# Altium footprint library SamacSys.PcbLib: 128 footprints (part 1 of 8)
Each footprint in its own frame and in the unit in brackets; x right, y up, seen from the top. Pads: shape width x height; smd on the part's side, far side on the other; paste and mask are expansions set on the pad; w line width, h text height; cw(c..) or ccw(c..) is an arc to the next point about the centre after c.
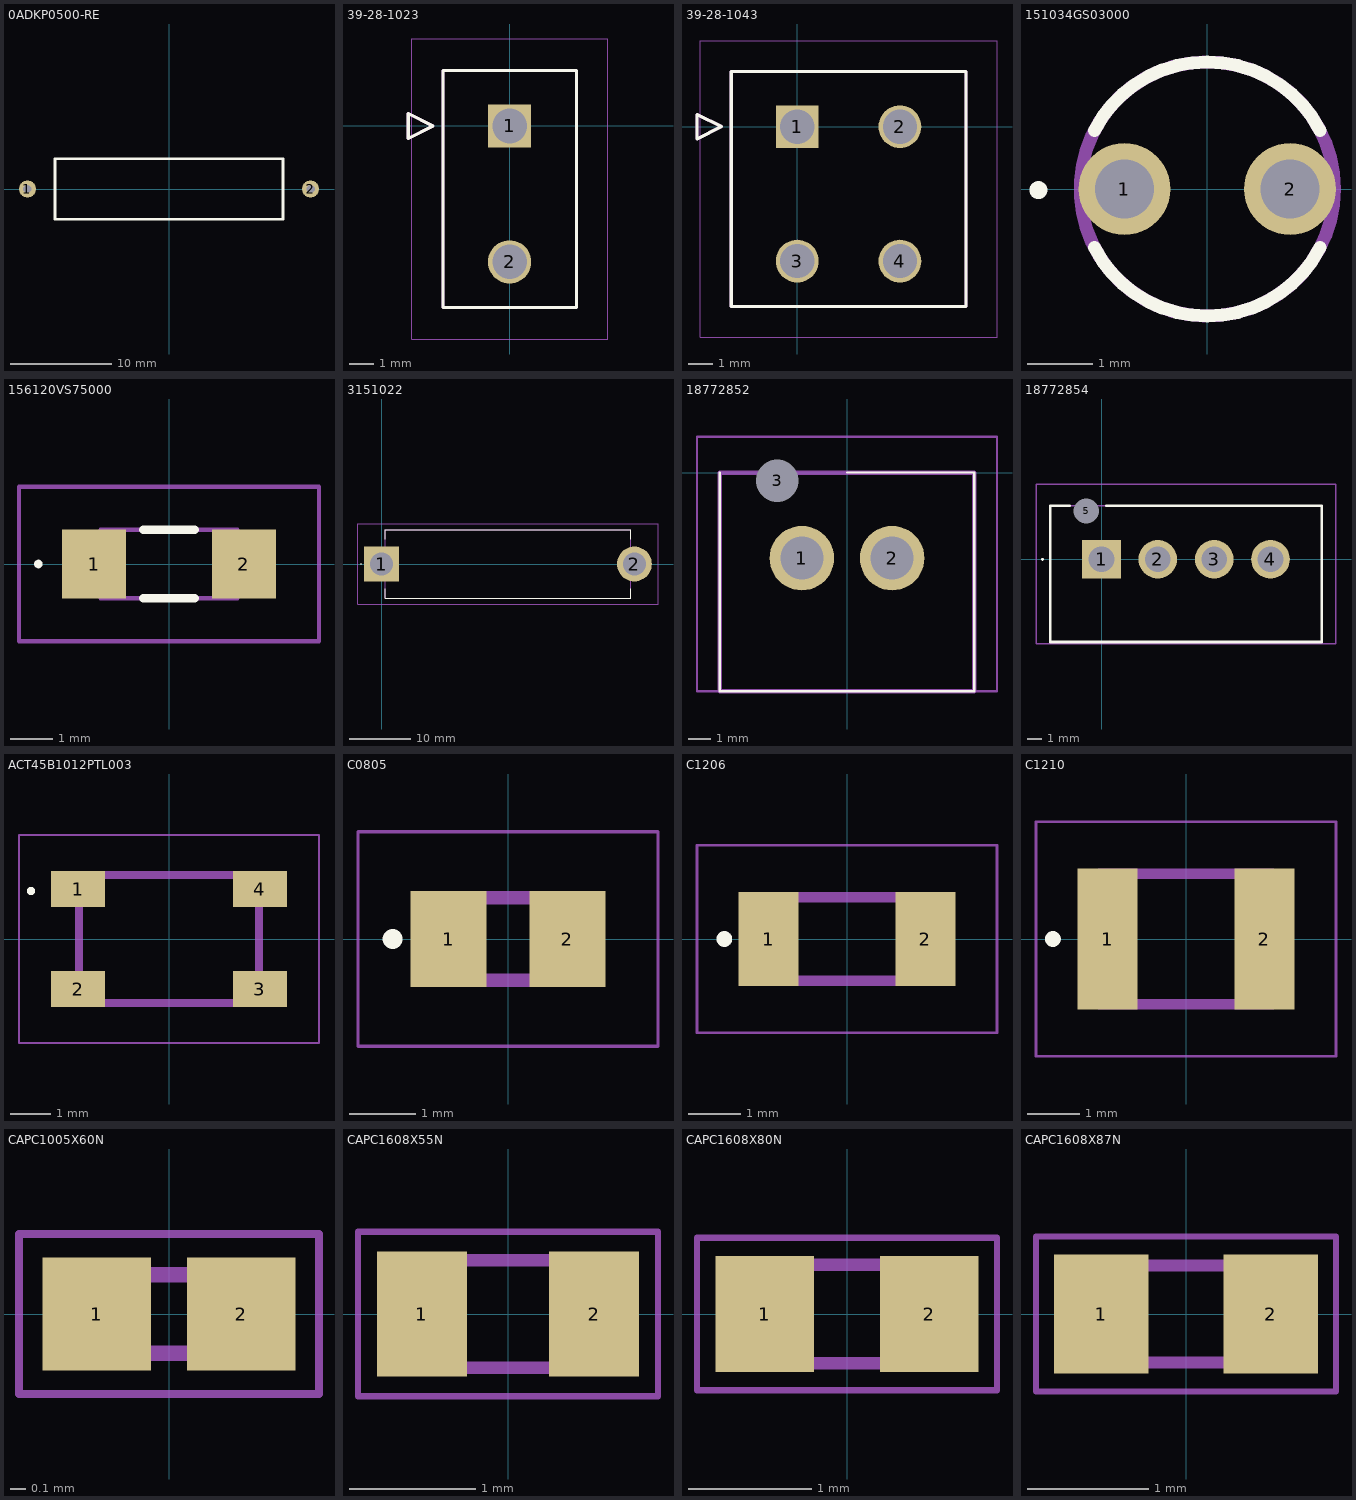
[diagram p0: the footprints below, top view; thin cyan lines are the x and y axes]

## 0ADKP0500-RE [mil]
pads (2):
  round 66 hole 33: 1(-550,0) 2(550,0)
Top Overlay:
  lines w10: -443,-118 443,-118 443,118 -443,118 -443,-118
Multi-Layer:
  pour cut-out: -443,118 -443,-118 443,-118 443,118

## 39-28-1023 [mm]
pads (2):
  rect 1.75x1.75 hole 1.4: 1(0,0)
  round 1.75 hole 1.4: 2(0,-5.5)
Top Overlay:
  lines w0.127: -4.1,-0.5 -4.1,0.5 -3.1,0 -4.1,-0.5 ; -2.7,-7.35 2.7,-7.35 2.7,2.25 -2.7,2.25 -2.7,-7.35
Mechanical 13:
  lines w0.127: -4.1,-0.5 -4.1,0.5 -3.1,0 -4.1,-0.5 ; -2.7,-7.35 2.7,-7.35 2.7,2.25 -2.7,2.25 -2.7,-7.35
Mechanical 15:
  lines w0.05: -3.97,-8.62 3.97,-8.62 3.97,3.52 -3.97,3.52 -3.97,-8.62
3D body "39-28-1023.stp": height 12.62, standoff -3.68, extent -3.11,-7.79 3.087,3.21

## 39-28-1043 [mm]
pads (4):
  rect 1.75x1.75 hole 1.4: 1(0,0)
  round 1.75 hole 1.4: 2(4.2,0) 3(0,-5.5) 4(4.2,-5.5)
Top Overlay:
  lines w0.127: -4.1,-0.5 -3.1,0 -4.1,0.5 -4.1,-0.5 ; -2.7,-7.35 -2.7,2.25 6.9,2.25 6.9,-7.35 -2.7,-7.35
Mechanical 13:
  lines w0.127: -4.1,-0.5 -3.1,0 -4.1,0.5 -4.1,-0.5 ; -2.7,-7.35 -2.7,2.25 6.9,2.25 6.9,-7.35 -2.7,-7.35
Mechanical 15:
  lines w0.05: -3.97,-8.62 -3.97,3.52 8.17,3.52 8.17,-8.62 -3.97,-8.62
3D body "39-28-1043.stp": height 12.76, standoff -3.54, extent -3.107,-8.74 7.29,2.26

## 151034GS03000 [mm]
pads (2):
  round 1.41 hole 0.91: 1(-1.27,0) 2(1.27,0)
Top Overlay:
  circle w0.2: c-2.59,-0.017 r0.037
  lines w0.2: -1.73,-0.9 ccw(c0,0) 1.73,-0.9 ; -1.73,0.9 cw(c0,0) 1.73,0.9
Mechanical 13:
  circle w0.2: c0,0 r1.95
3D body "151031VS06000.stp": height 1.97, standoff -1.97, extent -1.961,-31.7 1.645,0

## 156120VS75000 [mm]
pads (2):
  rect 1.5x1.6 smd: 1(-1.75,0) 2(1.75,0)
Top Overlay:
  lines w0.1: -3.1,0 cw(c-3.05,0) -3,0 cw(c-3.05,0) -3.1,0
  lines w0.2: -0.6,-0.8 0.6,-0.8 ; -0.6,0.8 0.6,0.8
Mechanical 13:
  lines w0.1: -1.6,-0.8 1.6,-0.8 1.6,0.8 -1.6,0.8 -1.6,-0.8
Mechanical 15:
  lines w0.1: -3.5,-1.8 3.5,-1.8 3.5,1.8 -3.5,1.8 -3.5,-1.8
3D body "156120VS75000.stp": height 1.2, standoff 0, extent -1.6,-0.8 1.6,0.8

## 3151022 [mm]
pads (2):
  rect 5.685x5.685 hole 3.79: 1(0,0)
  round 5.685 hole 3.79: 2(41.2,0)
Top Overlay:
  lines w0.1: -3.4,0 ccw(c-3.35,0) -3.3,0 ccw(c-3.35,0) -3.4,0
  lines w0.2: 0.6,-4 0.6,-5.55 40.6,-5.55 40.6,-4 ; 0.6,4 0.6,5.55 40.6,5.55 40.6,4
Mechanical 13:
  lines w0.1: 0.6,-5.55 40.6,-5.55 40.6,5.55 0.6,5.55 0.6,-5.55
Mechanical 15:
  lines w0.1: -3.843,-6.55 45.043,-6.55 45.043,6.55 -3.843,6.55 -3.843,-6.55
3D body "3-151-022.stp": height 12.55, standoff -3.44, extent -0.35,-5.55 41.35,5.55

## 18772852 [mm]
pads (3):
  round 2.835 hole 1.89: 1(-1.98,-3.76) 2(1.98,-3.76)
  round 0.93 hole 1.86 unplated: 3(-3.06,-0.36)
Top Overlay:
  lines w0.1: -5.585,0 -5.585,-9.6 5.585,-9.6 5.585,0 0,0
Mechanical 13:
  lines w0.2: -5.585,-9.6 -5.585,0 5.585,0 5.585,-9.6 -5.585,-9.6
Mechanical 15:
  lines w0.1: -6.585,-9.6 -6.585,1.57 6.585,1.57 6.585,-9.6 -6.585,-9.6
3D body "1877285-2.stp": height 11.91, standoff -3.71, extent -5.585,-9.585 5.585,0.3

## 18772854 [mm]
pads (5):
  rect 2.715x2.715 hole 1.81: 1(0,0)
  round 2.715 hole 1.81: 2(3.96,0) 3(7.92,0) 4(11.88,0)
  round 0.89 hole 1.78 unplated: 5(-1.08,3.4)
Top Overlay:
  lines w0.1: -4.2,0 ccw(c-4.15,0) -4.1,0 ccw(c-4.15,0) -4.2,0
  lines w0.2: -2.26,3.76 -3.605,3.76 -3.605,-5.82 15.485,-5.82 15.485,3.77 0.34,3.76
Mechanical 13:
  lines w0.1: -3.605,-5.82 15.485,-5.82 15.485,3.76 -3.605,3.76 -3.605,-5.82
Mechanical 15:
  lines w0.1: -4.605,-5.95 16.485,-5.95 16.485,5.29 -4.605,5.29 -4.605,-5.95
3D body "1877285-4.stp": height 11.86, standoff -3.76, extent -3.556,-5.959 15.534,3.927

## ACT45B1012PTL003 [mm]
pads (4):
  rect 1.35x0.9 smd: 1(-2.275,1.25) 2(-2.275,-1.25) 3(2.275,-1.25) 4(2.275,1.25)
Top Overlay:
  lines w0.1: -3.5,1.2 cw(c-3.45,1.2) -3.4,1.2 cw(c-3.45,1.2) -3.5,1.2
Mechanical 13:
  lines w0.2: -2.25,-1.6 2.25,-1.6 2.25,1.6 -2.25,1.6 -2.25,-1.6
Mechanical 15:
  lines w0.05: -3.75,-2.6 3.75,-2.6 3.75,2.6 -3.75,2.6 -3.75,-2.6
3D body "ACT45B-510-2P-TL003.stp": height 2.8, standoff 0, extent -2.224,-1.602 2.276,1.598

## C0805 [mm]
pads (2):
  rect 1.15x1.45 smd: 1(-0.9,0) 2(0.9,0)
Top Overlay:
  circle w0.2: c-1.75,0 r0.05
Mechanical 13:
  lines w0.2: -1,-0.625 -1,0.625 1,0.625 1,-0.625 -1,-0.625
Mechanical 15:
  lines w0.05: -2.275,-1.625 -2.275,1.625 2.275,1.625 2.275,-1.625 -2.275,-1.625
3D body "C0805C103F1GACAUTO.stp": height 0, standoff -1.55, extent 0,0 2.3,0.98

## C1206 [mm]
pads (2):
  rect 1.15x1.8 smd: 1(-1.5,0) 2(1.5,0)
Top Overlay:
  circle w0.2: c-2.35,0 r0.05
Mechanical 13:
  lines w0.2: -1.6,-0.8 -1.6,0.8 1.6,0.8 1.6,-0.8 -1.6,-0.8
Mechanical 15:
  lines w0.05: -2.875,-1.8 -2.875,1.8 2.875,1.8 2.875,-1.8 -2.875,-1.8
3D body "C1206C180FGGACTU.stp": height 1.75, standoff 0, extent -1.7,-0.9 1.7,0.9

## C1210 [mm]
pads (2):
  rect 1.15x2.7 smd: 1(-1.5,0) 2(1.5,0)
Top Overlay:
  circle w0.2: c-2.55,0 r0.05
Mechanical 13:
  lines w0.2: -1.65,-1.25 -1.65,1.25 1.65,1.25 1.65,-1.25 -1.65,-1.25
Mechanical 15:
  lines w0.05: -2.875,-2.25 -2.875,2.25 2.875,2.25 2.875,-2.25 -2.875,-2.25
3D body "C1210C102JDGACAUTO.stp": height 0, standoff -2.7, extent 0,0 3.4,1.9

## CAPC1005X60N [mm]
pads (2):
  rect 0.69x0.72 smd: 1(-0.46,0) 2(0.46,0)
Mechanical 13:
  lines w0.1: -0.5,-0.25 -0.5,0.25 0.5,0.25 0.5,-0.25 -0.5,-0.25
Mechanical 15:
  lines w0.05: -0.955,-0.51 -0.955,0.51 0.955,0.51 0.955,-0.51 -0.955,-0.51
3D body "298D106X06R3M2T.stp": height 0.6, standoff 0, extent -0.5,-0.25 0.5,0.25

## CAPC1608X55N [mm]
pads (2):
  rect 0.71x0.99 smd: 1(-0.68,0) 2(0.68,0)
Mechanical 13:
  lines w0.1: -0.775,-0.425 -0.775,0.425 0.775,0.425 0.775,-0.425 -0.775,-0.425
Mechanical 15:
  lines w0.05: -1.185,-0.65 -1.185,0.65 1.185,0.65 1.185,-0.65 -1.185,-0.65
3D body "TNPW060311K7BEEA.stp": height 0, standoff 0, extent 0,0 0,0

## CAPC1608X80N [mm]
pads (2):
  rect 0.8x0.94 smd: 1(-0.67,0) 2(0.67,0)
Mechanical 13:
  lines w0.1: -0.8,-0.4 -0.8,0.4 0.8,0.4 0.8,-0.4 -0.8,-0.4
Mechanical 15:
  lines w0.05: -1.22,-0.62 -1.22,0.62 1.22,0.62 1.22,-0.62 -1.22,-0.62
3D body "885012106020.stp": height 0.4, standoff -0.4, extent -0.8,-0.4 0.8,0.4

## CAPC1608X87N [mm]
pads (2):
  rect 0.78x0.98 smd: 1(-0.7,0) 2(0.7,0)
Mechanical 13:
  lines w0.1: -0.8,-0.4 -0.8,0.4 0.8,0.4 0.8,-0.4 -0.8,-0.4
Mechanical 15:
  lines w0.05: -1.24,-0.64 -1.24,0.64 1.24,0.64 1.24,-0.64 -1.24,-0.64
3D body "C0603C223K5RAC-TU.stp": height 0.87, standoff 0, extent -0.87,-0.48 0.88,0.47